# Altium footprint library thermostat.PcbLib: 95 footprints (part 2 of 6)
Each footprint in its own frame and in the unit in brackets; x right, y up, seen from the top. Pads: shape width x height; smd on the part's side, far side on the other; paste and mask are expansions set on the pad; w line width, h text height; cw(c..) or ccw(c..) is an arc to the next point about the centre after c.
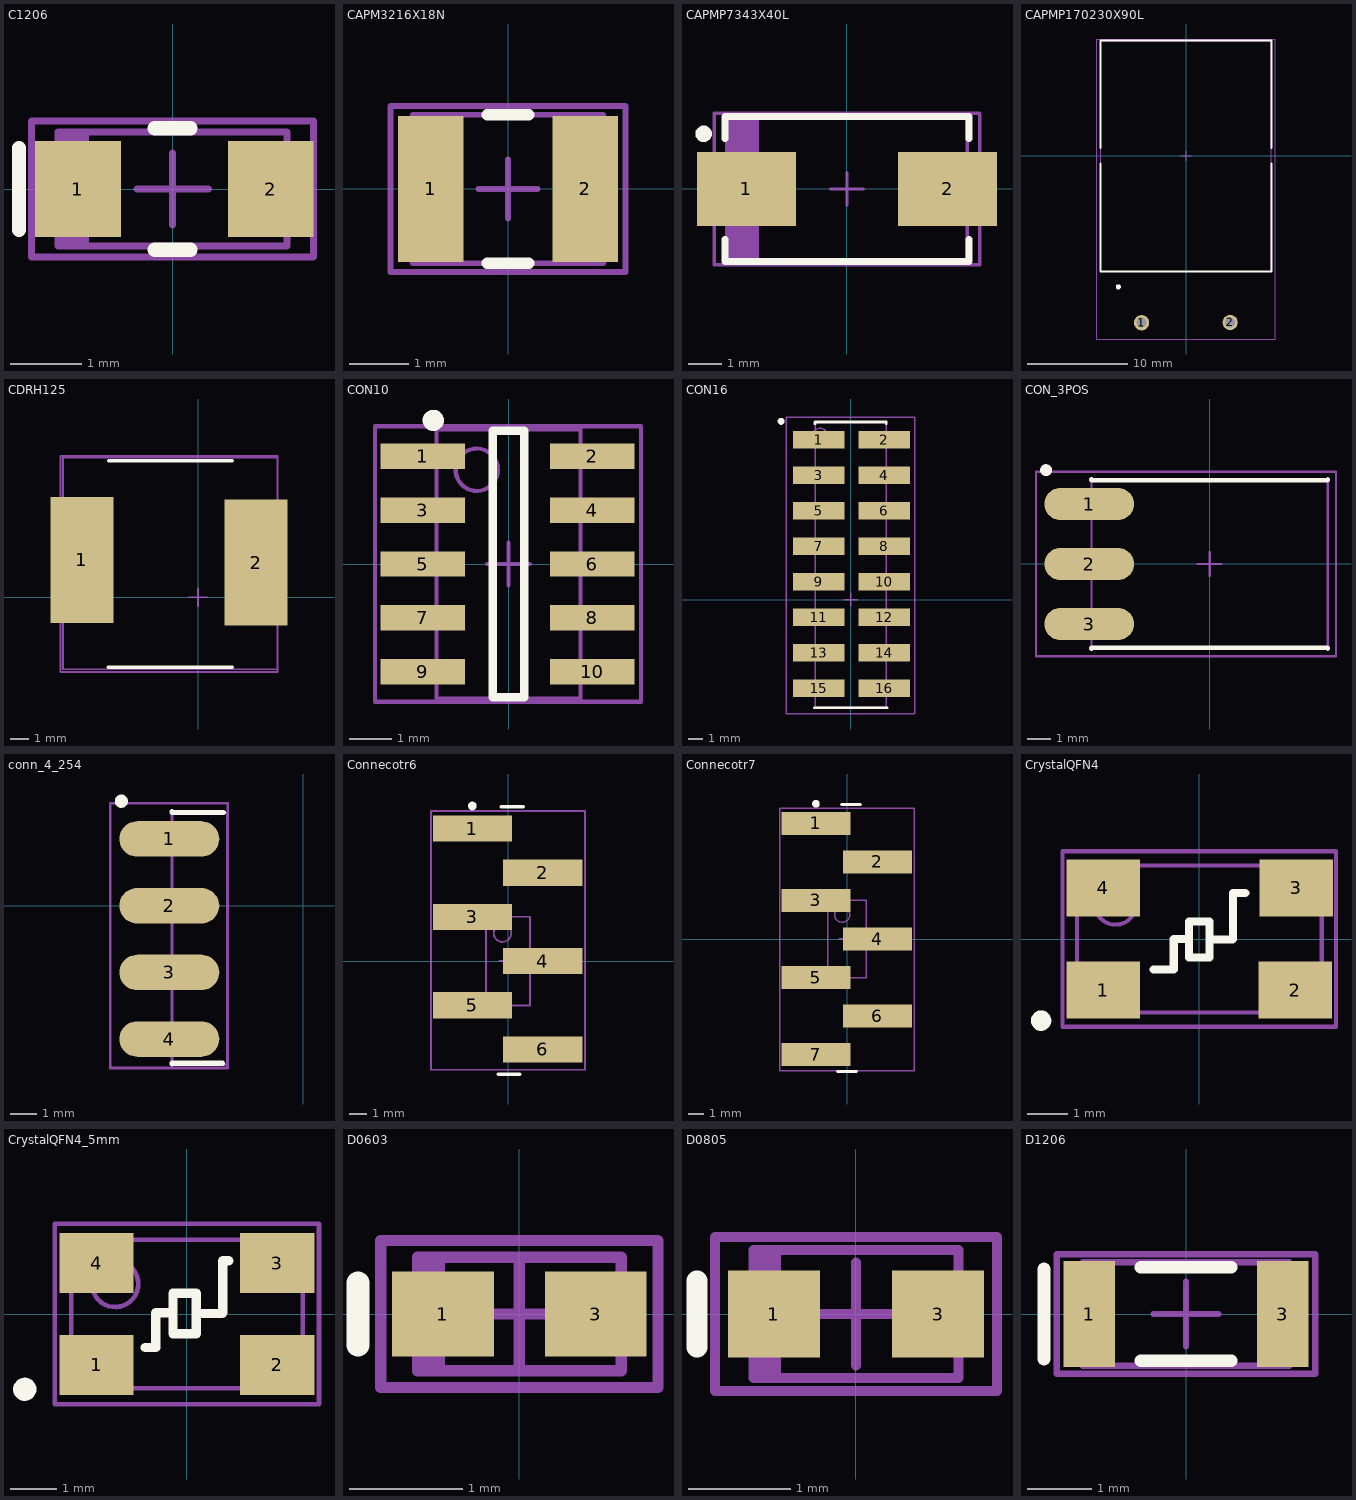
[diagram p1: the footprints below, top view; thin cyan lines are the x and y axes]

## C1206 [mm]
height 1.7
pads (2):
  rect 1.2x1.35 smd: 1(-1.325,0) 2(1.375,0)
Top Overlay:
  lines w0.2: -2.15,-0.575 -2.15,0.575 ; -0.25,-0.85 0.25,-0.85 ; -0.25,0.85 0.25,0.85
Mechanical 13:
  rectangle: -1.6,-0.8 -1.17,0.8
  lines w0.1: -1.6,-0.8 1.6,-0.8 1.6,0.8 -1.6,0.8 -1.6,-0.8
Mechanical 15:
  lines w0.1: -0.5,0 0.5,0 ; 0,-0.5 0,0.5 ; -1.975,-0.95 1.975,-0.95 1.975,0.95 -1.975,0.95 -1.975,-0.95
3D body: height 1.7, standoff 0, extent -1.6,-0.8 1.6,0.8

## CAPM3216X18N [mm]
height 1.6
pads (2):
  rect 1.1x2.45 smd: 1(-1.3,0) 2(1.3,0)
Top Overlay:
  lines w0.2: -0.35,-1.25 0.35,-1.25 ; -0.35,1.25 0.35,1.25
Mechanical 13:
  lines w0.1: -1.6,-1.25 -1.6,1.25 1.6,1.25 1.6,-1.25 -1.6,-1.25
Mechanical 15:
  lines w0.1: -0.5,0 0.5,0 ; 0,-0.5 0,0.5 ; -1.975,-1.4 -1.975,1.4 1.975,1.4 1.975,-1.4 -1.975,-1.4
3D body: height 1.6, standoff 0, extent -1.6,-1.25 1.6,1.25

## CAPMP7343X40L [mm] "Molded Capacitor, 2-Leads, Body 7,3x4,3mm, IPC High Density"
height 4
pads (2):
  rect 3x2.25 smd: 1(-3.05,0) 2(3.05,0)
Top Overlay:
  circle w0.25: c-4.35,1.675 r0.125
  lines w0.2: -3.7,-1.525 -3.7,-2.2 3.7,-2.2 3.7,-1.525 ; -3.7,1.525 -3.7,2.2 3.7,2.2 3.7,1.525
Mechanical 13:
  rectangle: -3.65,-2.15 -2.668,2.15
  lines w0.1: -3.65,-2.15 3.65,-2.15 3.65,2.15 -3.65,2.15 -3.65,-2.15
Mechanical 15:
  lines w0.1: -0.5,0 0.5,0 ; 0,-0.5 0,0.5 ; -4.025,-2.3 4.025,-2.3 4.025,2.3 -4.025,2.3 -4.025,-2.3
3D body: height 4, standoff 0, extent -3.65,-2.15 3.65,2.15

## CAPMP170230X90L [mm] "Molded Capacitor, 2-Leads, Body 17,0x23,0mm, IPC High Density"
height 9
pads (2):
  round 1.524 hole 1: 1(-4.425,-16.625) 2(4.4,-16.6)
Top Overlay:
  circle w0.25: c-6.75,-13.05 r0.125
  lines w0.2: -8.5,-0.775 -8.5,-11.5 8.5,-11.5 8.5,-0.775 ; -8.5,0.775 -8.5,11.5 8.5,11.5 8.5,0.775
Mechanical 13:
  lines w0.1: -8.5,-11.5 -8.5,11.5 8.5,11.5 8.5,-11.5 -8.5,-11.5
Mechanical 15:
  lines w0.1: -0.5,0 0.5,0 ; 0,-0.5 0,0.5 ; -8.875,-18.25 -8.875,11.65 8.875,11.65 8.875,-18.25 -8.875,-18.25
3D body: height 9, standoff 0, extent -8.5,-11.5 8.5,11.5

## CDRH125 [mm] "POWER INDUCTOR 100UH 1.6A SMD"
height 6
pads (2):
  rect 3.5x7 smd: 1(-6.45,2.075) 2(3.225,1.925)
Top Overlay:
  lines w0.2: -5,-3.9 1.9,-3.9 ; -4.95,7.6 1.9,7.6
Mechanical 13:
  lines w0.1: -7.5,-4 -7.5,7.775 4.4,7.775 4.4,-4 -7.5,-4
Mechanical 15:
  lines w0.1: -0.5,0 0.5,0 ; 0,-0.5 0,0.5 ; -7.65,-4.15 -7.65,7.85 4.425,7.85 4.425,-4.15 -7.65,-4.15
3D body: height 6, standoff 0, extent -7.55,-4.025 4.35,7.75

## CON10 [mm] "SOP, 10-Leads, Body 6,3x3,4mm (max), Pitch 1,27mm, IPC High Density"
height 5
pads (10):
  rect 2x0.6 smd: 1(-2.025,2.54) 2(1.975,2.54) 3(-2.025,1.27) 4(1.975,1.27) 5(-2.025,0) 6(1.975,0) 7(-2.025,-1.27) 8(1.975,-1.27) 9(-2.025,-2.54) 10(1.975,-2.54)
Top Overlay:
  circle w0.25: c-1.775,3.39 r0.125
  lines w0.2: -0.375,-3.15 -0.375,3.15 0.375,3.15 0.375,-3.15 -0.375,-3.15
Mechanical 13:
  circle w0.1: c-0.75,2.225 r0.5
  lines w0.1: -1.7,-3.175 -1.7,3.175 1.7,3.175 1.7,-3.175 -1.7,-3.175
Mechanical 15:
  lines w0.1: -0.5,0 0.5,0 ; 0,-0.5 0,0.5 ; -3.15,-3.25 -3.15,3.25 3.125,3.25 3.125,-3.25 -3.15,-3.25
3D body: height 5, standoff 0.2, extent -1.7,-3.175 1.7,3.175

## CON16 [mm] "16-Leads, Body 25,4x5,1mm (max), Pitch 2,54mm, IPC High Density"
height 7
pads (16):
  rect 3.68x1.27 smd: 1(-2.275,11.43) 2(2.4,11.43) 3(-2.275,8.89) 4(2.4,8.89) 5(-2.275,6.35) 6(2.4,6.35) 7(-2.275,3.81) 8(2.4,3.81) 9(-2.275,1.27) 10(2.4,1.27) 11(-2.275,-1.27) 12(2.4,-1.27) 13(-2.275,-3.81) 14(2.4,-3.81) 15(-2.275,-6.35) 16(2.4,-6.35)
Top Overlay:
  circle w0.25: c-4.975,12.75 r0.125
  lines w0.2: -2.6,-7.75 0.375,-7.75 ; -2.55,12.575 -2.55,12.7 0.425,12.7 ; -0.425,12.7 2.55,12.7 2.55,12.575 ; -0.375,-7.75 2.6,-7.75
Mechanical 13:
  circle w0.1: c-2.19,11.75 r0.5
  lines w0.1: -2.54,-7.725 -2.54,12.7 2.54,12.7 2.54,-7.725 -2.54,-7.725
Mechanical 15:
  lines w0.1: -0.5,0 0.5,0 ; 0,-0.5 0,0.5 ; -4.6,-8.175 -4.6,13.05 4.575,13.05 4.575,-8.175 -4.6,-8.175
3D body: height 7, standoff 0.1, extent -2.54,-7.75 2.54,12.7

## CON_3POS [mm] "3POS, 6-Leads, Body 7,1x10,0mm (max), Pitch 2,54mm, IPC High Density"
height 8
pads (3):
  oval 3.8x1.35 smd: 1(-5.1,2.54) 2(-5.1,0) 3(-5.1,-2.54)
Top Overlay:
  circle w0.25: c-6.925,3.975 r0.125
  lines w0.2: -5,-3.575 -5,-3.55 0.425,-3.55 ; -5,3.575 -5,3.55 0.425,3.55 ; -0.425,-3.55 5,-3.55 5,-3.575 ; -0.425,3.55 5,3.55 5,3.575
Mechanical 13:
  circle w0.1: c-5.8,2.59 r0.5
  lines w0.1: -5,-3.54 -5,3.54 5,3.54 5,-3.54 -5,-3.54
Mechanical 15:
  lines w0.1: -0.5,0 0.5,0 ; 0,-0.5 0,0.5 ; -7.35,-3.9 -7.35,3.9 5.35,3.9 5.35,-3.9 -7.35,-3.9
3D body: height 8, standoff 0.1, extent -5,-3.54 5,3.54

## conn_4_254 [mm]
height 1.5
pads (4):
  oval 3.8x1.35 smd: 1(-5.1,2.54) 2(-5.1,0) 3(-5.1,-2.54) 4(-5.1,-5.075)
Top Overlay:
  circle w0.25: c-6.925,3.975 r0.125
  lines w0.2: -5,-6.025 -5,-6 -3.075,-6 ; -5,3.575 -5,3.55 -3.05,3.55
Mechanical 13:
  circle w0.1: c-5.8,2.59 r0.5
  lines w0.1: -5,-6.05 -5,3.54 -2.9,3.54 -2.9,-6.05 -5,-6.05
Mechanical 15:
  lines w0.1: -7.35,-6.175 -7.35,3.9 -2.875,3.9 -2.875,-6.175 -7.35,-6.175
3D body: height 1.5, standoff 0, extent -5,-6.025 -2.925,3.54

## Connecotr6 [mm]
height 10
pads (6):
  rect 4.55x1.5 smd: 1(-2.05,7.62) 2(2,5.08) 3(-2.05,2.54) 4(2,0) 5(-2.05,-2.54) 6(2,-5.08)
Top Overlay:
  circle w0.25: c-2.05,8.92 r0.125
  lines w0.2: -0.575,-6.5 0.675,-6.5 ; -0.375,8.875 0.875,8.875
Mechanical 13:
  circle w0.1: c-0.32,1.6 r0.5
  lines w0.1: -1.27,-2.55 -1.27,2.55 1.27,2.55 1.27,-2.55 -1.27,-2.55
Mechanical 15:
  lines w0.1: -0.5,0 0.5,0 ; 0,-0.5 0,0.5 ; -4.425,-6.25 -4.425,8.625 4.425,8.625 4.425,-6.25 -4.425,-6.25
3D body: height 7, standoff 0.4, extent -1.27,-6.025 1.27,8.525

## Connecotr7 [mm]
height 10
pads (7):
  rect 4.55x1.5 smd: 1(-2.05,7.62) 2(2,5.08) 3(-2.05,2.54) 4(2,0) 5(-2.05,-2.54) 6(2,-5.08) 7(-2.05,-7.62)
Top Overlay:
  circle w0.25: c-2.05,8.92 r0.125
  lines w0.2: -0.625,-8.75 0.625,-8.75 ; -0.375,8.875 0.875,8.875
Mechanical 13:
  circle w0.1: c-0.32,1.6 r0.5
  lines w0.1: -1.27,-2.55 1.27,-2.55 1.27,2.55 -1.27,2.55 -1.27,-2.55
Mechanical 15:
  lines w0.1: -0.5,0 0.5,0 ; 0,-0.5 0,0.5 ; -4.425,-8.7 4.425,-8.7 4.425,8.625 -4.425,8.625 -4.425,-8.7
3D body: height 7, standoff 0.4, extent -1.27,-8.6 1.27,8.525

## CrystalQFN4 [mm] "QFN, 4-Leads, Body 3,6x6,0mm (max), Pitch 0,50mm, Pitch1 2,50mm, IPC High Density"
height 1.2
pads (4):
  rect 1.8x1.4 smd: 1(-2.35,-1.25) 2(2.35,-1.25) 3(2.375,1.25) 4(-2.35,1.25)
Top Overlay:
  circle w0.25: c-3.875,-2 r0.125
  lines w0.2: -1.125,-0.75 -0.625,-0.75 -0.625,0 -0.275,0 ; 0.25,-0.012 0.813,-0.012 0.825,0 0.825,1.125 1.125,1.125 ; -0.25,-0.45 -0.25,0.425 0.25,0.425 0.25,-0.45 -0.25,-0.45
Mechanical 13:
  circle w0.1: c-2.05,0.85 r0.5
  lines w0.1: -3,-1.8 -3,1.8 3,1.8 3,-1.8 -3,-1.8
Mechanical 15:
  lines w0.1: -3.35,-2.15 -3.35,2.15 3.35,2.15 3.35,-2.15 -3.35,-2.15
3D body: height 1.2, standoff 0.1, extent -3,-1.8 3,1.8

## CrystalQFN4_5mm [mm] "QFN, 4-Leads, Body 3,2x5,0mm (max), Pitch 0,50mm, Pitch1 2,20mm, IPC High Density"
height 0.85
pads (4):
  rect 1.6x1.3 smd: 1(-1.95,-1.1) 2(1.95,-1.1) 3(1.95,1.1) 4(-1.95,1.1)
Top Overlay:
  circle w0.25: c-3.5,-1.625 r0.125
  lines w0.2: -0.9,-0.725 -0.675,-0.725 -0.675,0.025 -0.325,0.025 ; 0.2,0.013 0.763,0.013 0.775,0.025 0.775,1.15 0.9,1.15 ; -0.3,-0.425 0.2,-0.425 0.2,0.45 -0.3,0.45 -0.3,-0.425
Mechanical 13:
  circle w0.1: c-1.55,0.65 r0.5
  lines w0.1: -2.5,-1.6 2.5,-1.6 2.5,1.6 -2.5,1.6 -2.5,-1.6
Mechanical 15:
  lines w0.1: -2.85,-1.95 2.85,-1.95 2.85,1.95 -2.85,1.95 -2.85,-1.95
3D body: height 0.85, standoff 0.1, extent -2.5,-1.6 2.5,1.6

## D0603 [mm] "Molded Diode, 2-Leads, Body 1,7x0,9mm, IPC High Density"
height 0.85
pads (2):
  rect 0.9x0.75 smd: 1(-0.675,0) 3(0.675,0)
Top Overlay:
  lines w0.2: -1.425,-0.275 -1.425,0.275
Mechanical 13:
  rectangle: -0.9,-0.5 -0.658,0.5
  lines w0.1: -0.9,-0.5 0.9,-0.5 0.9,0.5 -0.9,0.5 -0.9,-0.5
Mechanical 15:
  lines w0.1: -0.5,0 0.5,0 ; 0,-0.5 0,0.5 ; -1.225,-0.65 1.225,-0.65 1.225,0.65 -1.225,0.65 -1.225,-0.65
3D body: height 0.85, standoff 0, extent -0.9,-0.5 0.9,0.5

## D0805 [mm]
height 1.2
pads (2):
  rect 0.9x0.85 smd: 1(-0.8,0) 3(0.8,0)
Top Overlay:
  lines w0.2: -1.55,-0.325 -1.55,0.325
Mechanical 13:
  rectangle: -1,-0.625 -0.731,0.625
  lines w0.1: -1,-0.625 1,-0.625 1,0.625 -1,0.625 -1,-0.625
Mechanical 15:
  lines w0.1: -0.5,0 0.5,0 ; 0,-0.5 0,0.5 ; -1.375,-0.75 1.375,-0.75 1.375,0.75 -1.375,0.75 -1.375,-0.75
3D body: height 1.1, standoff 0, extent -1,-0.625 1,0.625

## D1206 [mm] "1206, 2-Leads, Body 3,2x1,6mm, IPC High Density"
height 0.5
pads (2):
  rect 0.8x1.65 smd: 1(-1.5,0) 3(1.5,0)
Top Overlay:
  lines w0.2: -2.2,-0.7 -2.2,0.7 ; -0.7,-0.725 0.7,-0.725 ; -0.7,0.725 0.7,0.725
Mechanical 13:
  lines w0.1: -1.6,-0.8 1.6,-0.8 1.6,0.8 -1.6,0.8 -1.6,-0.8
Mechanical 15:
  lines w0.1: -0.5,0 0.5,0 ; 0,-0.5 0,0.5 ; -2,-0.925 2,-0.925 2,0.925 -2,0.925 -2,-0.925
3D body: height 0.5, standoff 0, extent -1.6,-0.8 1.6,0.8